# Altium schematic symbol library SCH - ARM CORTEX - ST STM32F101 64PIN.SCHLIB: 1 symbol
Pins are listed as number, name and electrical type; pins without a type are passive.

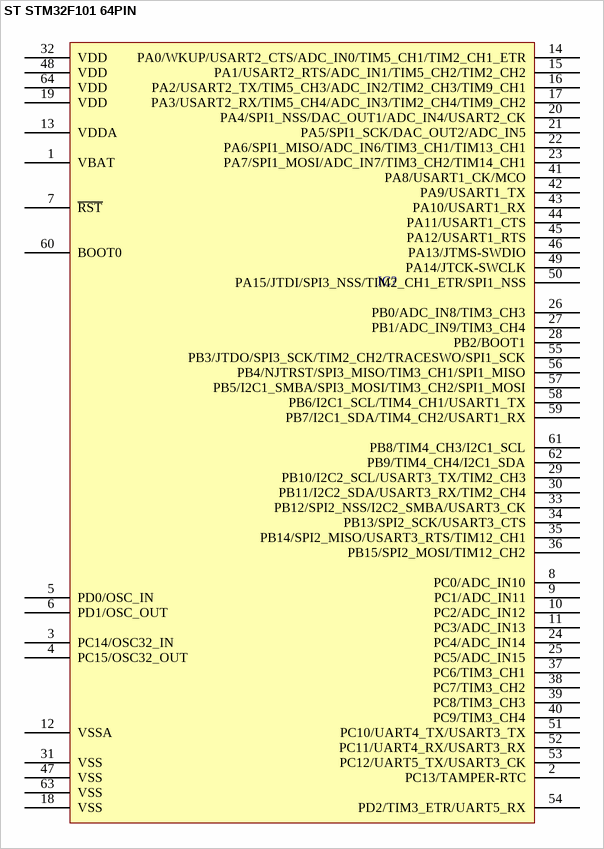
[diagram p0: symbol ST STM32F101 64PIN]

## ST STM32F101 64PIN
designator IC?
pins: 1 VBAT, 2 PC13/TAMPER-RTC, 3 PC14/OSC32_IN "PC14-OSC32_IN/PC14/OSC32_IN", 4 PC15/OSC32_OUT "PC15-OSC32_OUT/PC15/OSC32_OUT", 5 PD0/OSC_IN, 6 PD1/OSC_OUT, 7 ~{RST} "NRST", 8 PC0/ADC_IN10, 9 PC1/ADC_IN11, 10 PC2/ADC_IN12, 11 PC3/ADC_IN13, 12 VSSA, 13 VDDA, 14 PA0/WKUP/USART2_CTS/ADC_IN0/TIM5_CH1/TIM2_CH1_ETR, 15 PA1/USART2_RTS/ADC_IN1/TIM5_CH2/TIM2_CH2, 16 PA2/USART2_TX/TIM5_CH3/ADC_IN2/TIM2_CH3/TIM9_CH1, 17 PA3/USART2_RX/TIM5_CH4/ADC_IN3/TIM2_CH4/TIM9_CH2, 18 VSS, 19 VDD, 20 PA4/SPI1_NSS/DAC_OUT1/ADC_IN4/USART2_CK, 21 PA5/SPI1_SCK/DAC_OUT2/ADC_IN5, 22 PA6/SPI1_MISO/ADC_IN6/TIM3_CH1/TIM13_CH1, 23 PA7/SPI1_MOSI/ADC_IN7/TIM3_CH2/TIM14_CH1, 24 PC4/ADC_IN14, 25 PC5/ADC_IN15, 26 PB0/ADC_IN8/TIM3_CH3, 27 PB1/ADC_IN9/TIM3_CH4, 28 PB2/BOOT1, 29 PB10/I2C2_SCL/USART3_TX/TIM2_CH3, 30 PB11/I2C2_SDA/USART3_RX/TIM2_CH4, 31 VSS, 32 VDD, 33 PB12/SPI2_NSS/I2C2_SMBA/USART3_CK, 34 PB13/SPI2_SCK/USART3_CTS, 35 PB14/SPI2_MISO/USART3_RTS/TIM12_CH1, 36 PB15/SPI2_MOSI/TIM12_CH2, 37 PC6/TIM3_CH1, 38 PC7/TIM3_CH2, 39 PC8/TIM3_CH3, 40 PC9/TIM3_CH4, 41 PA8/USART1_CK/MCO, 42 PA9/USART1_TX, 43 PA10/USART1_RX, 44 PA11/USART1_CTS, 45 PA12/USART1_RTS, 46 PA13/JTMS-SWDIO, 47 VSS, 48 VDD, 49 PA14/JTCK-SWCLK, 50 PA15/JTDI/SPI3_NSS/TIM2_CH1_ETR/SPI1_NSS, 51 PC10/UART4_TX/USART3_TX, 52 PC11/UART4_RX/USART3_RX, 53 PC12/UART5_TX/USART3_CK, 54 PD2/TIM3_ETR/UART5_RX, 55 PB3/JTDO/SPI3_SCK/TIM2_CH2/TRACESWO/SPI1_SCK, 56 PB4/NJTRST/SPI3_MISO/TIM3_CH1/SPI1_MISO, 57 PB5/I2C1_SMBA/SPI3_MOSI/TIM3_CH2/SPI1_MOSI, 58 PB6/I2C1_SCL/TIM4_CH1/USART1_TX, 59 PB7/I2C1_SDA/TIM4_CH2/USART1_RX, 60 BOOT0, 61 PB8/TIM4_CH3/I2C1_SCL, 62 PB9/TIM4_CH4/I2C1_SDA, 63 VSS, 64 VDD